# EAGLE library part TEENSY2-C (library teensy2)
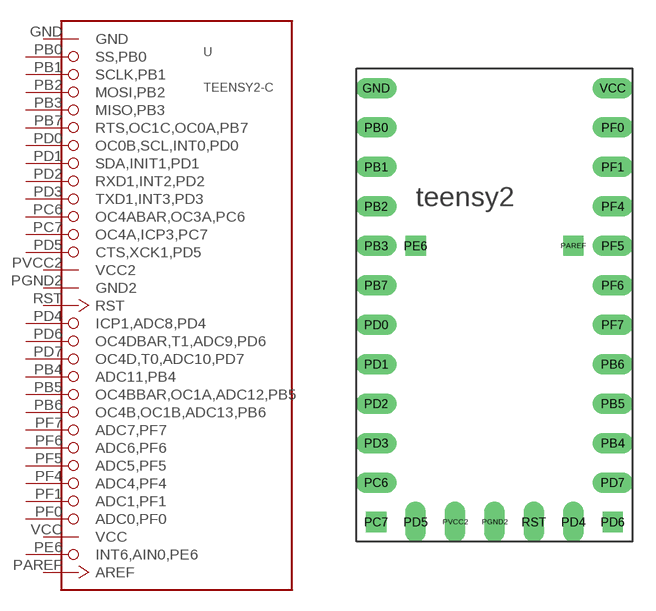
[diagram p0: symbol with the pads of TEENSY2; footprint TEENSY2]

Designator prefix -

## TEENSY2-CC-VERSION  [TEENSY2]
GND  GND  pwr
PAREF  AREF  in
PB0  SS,PB0
PB1  SCLK,PB1
PB2  MOSI,PB2
PB3  MISO,PB3
PB4  ADC11,PB4
PB5  OC4BBAR,OC1A,ADC12,PB5
PB6  OC4B,OC1B,ADC13,PB6
PB7  RTS,OC1C,OC0A,PB7
PC6  OC4ABAR,OC3A,PC6
PC7  OC4A,ICP3,PC7
PD0  OC0B,SCL,INT0,PD0
PD1  SDA,INIT1,PD1
PD2  RXD1,INT2,PD2
PD3  TXD1,INT3,PD3
PD4  ICP1,ADC8,PD4
PD5  CTS,XCK1,PD5
PD6  OC4DBAR,T1,ADC9,PD6
PD7  OC4D,T0,ADC10,PD7
PE6  INT6,AIN0,PE6
PF0  ADC0,PF0
PF1  ADC1,PF1
PF4  ADC4,PF4
PF5  ADC5,PF5
PF6  ADC6,PF6
PF7  ADC7,PF7
PGND2  GND2  pwr
PVCC2  VCC2  pwr
RST  RST  in
VCC  VCC  pwr

## Footprint TEENSY2 (pad centres in mm)
http://pjrc.com/teensy/index.html
drill 0.8 long: GND -7.62,15.24; PB0 -7.62,12.7; PB1 -7.62,10.16; PB2 -7.62,7.62; PB3 -7.62,5.08; PB4 7.62,-7.62; PB5 7.62,-5.08; PB6 7.62,-2.54; PB7 -7.62,2.54; PC6 -7.62,-10.16; PD0 -7.62,0; PD1 -7.62,-2.54; PD2 -7.62,-5.08; PD3 -7.62,-7.62; PD4 5.08,-12.7; PD5 -5.08,-12.7; PD7 7.62,-10.16; PF0 7.62,12.7; PF1 7.62,10.16; PF4 7.62,7.62; PF5 7.62,5.08; PF6 7.62,2.54; PF7 7.62,0; PGND2 0,-12.7; PVCC2 -2.54,-12.7; RST 2.54,-12.7; VCC 7.62,15.24
drill 0.8 square: PAREF 5.08,5.08; PC7 -7.62,-12.7; PD6 7.62,-12.7; PE6 -5.08,5.08